# EAGLE library part DCP010505BP (library BMC components)
DCP01B Series Miniature, 1W Isolated Unregulated DC/DC Converters The DCP01B series is a family of 1W, unregulated, isolated DC/DC converters. Datasheet: http://www.ti.com/lit/ds/symlink/dcp010505b.pdf Information page: http://www.ti.com/product/dcp010505b
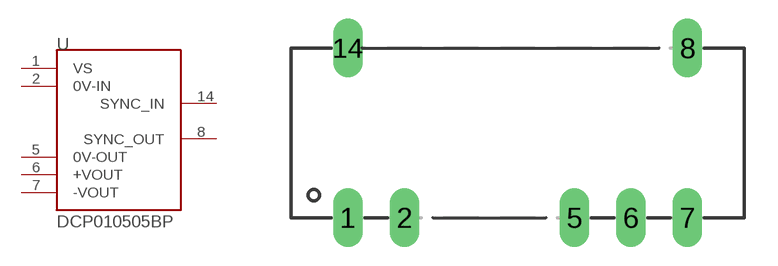
[diagram p12: symbol with the pads of DIP-14; footprint DIP-14]

Designator prefix -

## DCP010505BP  [DIP-14]
1  VS
2  0V-IN
5  0V-OUT
6  +VOUT
7  -VOUT
8  SYNC_OUT
14  SYNC_IN

## Footprint DIP-14 (pad centres in mm)
Wacky DIP-14 This is the wacky DIP-14 package that TI uses for the DCR08 series DC-DC converters.
drill 0.813 long: 1 2.54,0; 2 5.08,0; 5 12.7,0; 6 15.24,0; 7 17.78,0; 8 17.78,7.62; 14 2.54,7.62